# Altium schematic symbol library RT6256CH.SchLib: 1 symbol
Pins are listed as number, name and electrical type; pins without a type are passive.

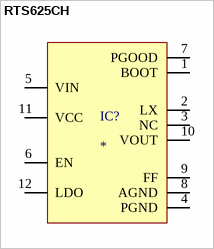
[diagram p0: symbol RTS625CH]

## RTS625CH
designator IC?
5V6A SWITCHING REG WITH 5V LDO
footprint RT6258C
pins: 1 BOOT, 2 LX, 3 NC, 4 PGND, 5 VIN, 6 EN, 7 PGOOD, 8 AGND, 9 FF, 10 VOUT, 11 VCC, 12 LDO